# Altium schematic symbol library MAX5725.SchLib: 1 symbol
Pins are listed as number, name and electrical type; pins without a type are passive.

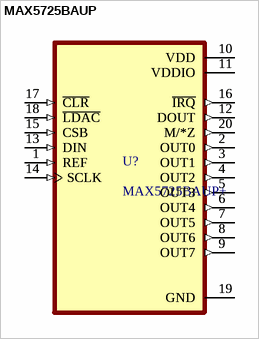
[diagram p0: symbol MAX5725BAUP]

## MAX5725BAUP
designator U?, comment MAX5725BAUP+
IC DAC 12BIT V-OUT 20TSSOP
footprint MAX5725BAUP+
pins: 1 REF (in), 1 REF (in), 2 OUT0 (out), 2 OUT0 (out), 3 OUT1 (out), 3 OUT1 (out), 4 OUT2 (out), 4 OUT2 (out), 5 OUT3 (out), 5 OUT3 (out), 6 OUT4 (out), 6 OUT4 (out), 7 OUT5 (out), 7 OUT5 (out), 8 OUT6 (out), 8 OUT6 (out), 9 OUT7 (out), 9 OUT7 (out), 10 VDD (power), 10 VDD (power), 11 VDDIO (power), 11 VDDIO (power), 12 DOUT (out), 12 DOUT (out), 13 DIN (in), 13 DIN (in), 14 SCLK (in), 14 SCLK (in), 15 CSB (in), 15 CSB (in), 16 ~{IRQ} (out), 16 ~{IRQ} (out), 17 ~{CLR} (in), 17 ~{CLR} (in), 18 ~{LDAC} (in), 18 ~{LDAC} (in), 19 GND (power), 19 GND (power), 20 M/*Z (out), 20 M/*Z (out)